# EAGLE library part P092-QC15 (library pot)
POTENTIOMETER - 9 mm 6 mm shaft, 18 teeth knurl
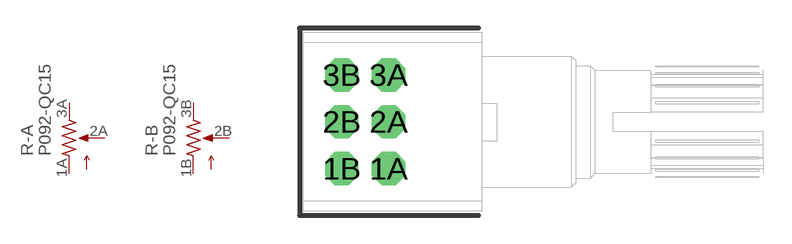
[diagram p8: symbol with the pads of P092-QC15; footprint P092-QC15]

Designator prefix R; gates -A=POT_US- -B=POT_US-

## P092-QC15  [P092-QC15]
1A  -A:1  pas
1B  -B:1  pas
2A  -A:2  pas
2B  -B:2  pas
3A  -A:3  pas
3B  -B:3  pas

## Footprint P092-QC15 (pad centres in mm)
drill 1.016 pad 1.778 octagon: 1A -5,-2.5; 1B -7.5,-2.5; 2A -5,0; 2B -7.5,0; 3A -5,2.5; 3B -7.5,2.5